# Altium integrated library TP4056-42-ESOP8.IntLib: 1 symbol
Pins are listed as number, name and electrical type; pins without a type are passive.

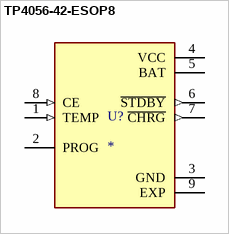
[diagram p0: symbol TP4056-42-ESOP8]

## TP4056-42-ESOP8
designator U?
TP4056-42-ESOP8 TP; MF: Lite-On Semiconductor; SnapEDA_Link: https://www.snapeda.com/parts/TP4056-42-ESOP8/Lite-On/view-part/?ref=snap; Package: None; Value: *; MP: TP4056-42-ESOP8; Check_prices: https://www.snapeda.com/parts/TP4056-42-ESOP8/Lite-On/view-part/?ref=eda
footprint SOIC127P600X175-9N
pins: 1 TEMP (in), 2 PROG, 3 GND (power), 4 VCC (power), 5 BAT (power), 6 ~{STDBY} (out), 7 ~{CHRG} (out), 8 CE (in), 9 EXP